# Altium integrated library MURATA_LQW21FT2R0M0HL.IntLib: 1 symbol
Pins are listed as number, name and electrical type; pins without a type are passive.

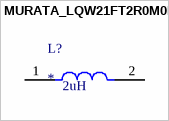
[diagram p0: symbol MURATA_LQW21FT2R0M0HL]

## MURATA_LQW21FT2R0M0HL
designator L?
FIXED IND 2UH 450MA POWRTRN; MP: LQW21FT2R0M0HL; MF: Murata Electronics; Package: None; SnapEDA_Link: https://www.snapeda.com/parts/LQW21FT2R0M0HL/Murata/view-part/?ref=snap; Check_prices: https://www.snapeda.com/parts/LQW21FT2R0M0HL/Murata/view-part/?ref=eda; Value: *; Purchase-URL: https://pricing.snapeda.com/search/part/LQW21FT2R0M0HL/?ref=eda; Digi-Key_Part_Number: 490-LQW21FT2R0M0HLTR-ND
footprint MURATA_LQW21FT2R0M0HL_0
pins: 1, 2
text: 2uH